# EAGLE library part MCP41HV51-503E_ST (library MCP41HV51-503E_ST)
MCP41HV51-503E/ST, Digital Potentiometer 50k 256-Position Serial-SPI 14-Pin TSSOP Source: Datasheet <http://ww1.microchip.com/downloads/en/devicedoc/20005207b.pdf>
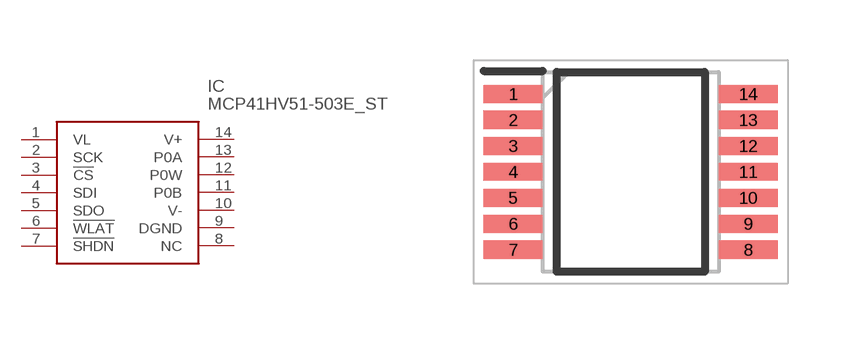
[diagram p0: symbol with the pads of SOP65P640X120-14N; footprint SOP65P640X120-14N]

Designator prefix IC

## MCP41HV51-503E_ST (Description: MCP41HV51-503E/ST, Digital Potentiometer 50k 256-Position Serial-SPI 14-Pin TSSOP; Height: 1.2mm; Manufacturer_Name: Microchip; Manufacturer_Part_Number: MCP41HV51-503E/ST; Mouser_Part_Number: 579-MCP41HV51-503EST; Mouser_Price-Stock: https://www.mouser.co.uk/ProductDetail/Microchip-Technology/MCP41HV51-503E-ST?qs=zOnbk8%2FsRx4ZUpOx9fi55g%3D%3D)  [SOP65P640X120-14N]
1  VL
2  SCK
3  !CS
4  SDI
5  SDO
6  !WLAT
7  !SHDN
8  NC  nc
9  DGND
10  V-
11  P0B
12  P0W
13  P0A
14  V+

## Footprint SOP65P640X120-14N (pad centres in mm)
MCP41HV51-503E/ST-1
smd 1.475 x 0.45: 1 -2.938,1.95; 2 -2.938,1.3; 3 -2.938,0.65; 4 -2.938,0; 5 -2.938,-0.65; 6 -2.938,-1.3; 7 -2.938,-1.95; 8 2.938,-1.95; 9 2.938,-1.3; 10 2.938,-0.65; 11 2.938,0; 12 2.938,0.65; 13 2.938,1.3; 14 2.938,1.95